# EAGLE library part 74C04 (library ryans-common-components)
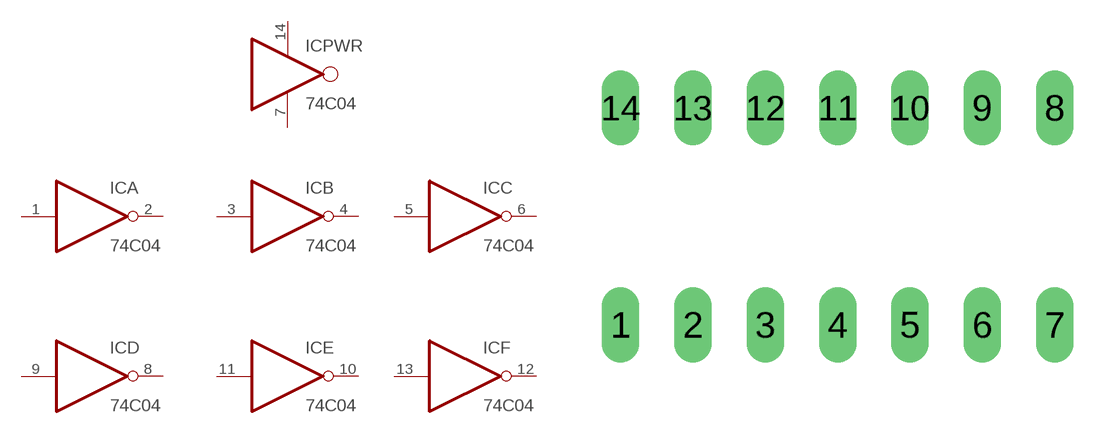
[diagram p20: symbol with the pads of DIL14-SOCKET; footprint DIL14-SOCKET]

Designator prefix IC; gates PWR=7404-INVERTER-PWR A=7404-INVERTER B=7404-INVERTER C=7404-INVERTER D=7404-INVERTER E=7404-INVERTER F=7404-INVERTER

## 74C04-DIP14  [DIL14-SOCKET]
1  A:I  in
2  A:O  out
3  B:I  in
4  B:O  out
5  C:I  in
6  C:O  out
7  PWR:GND  pwr
8  D:O  out
9  D:I  in
10  E:O  out
11  E:I  in
12  F:O  out
13  F:I  in
14  PWR:VCC  pwr

## Footprint DIL14-SOCKET (pad centres in mm)
drill 0.813 long: 1 -7.62,-3.81; 2 -5.08,-3.81; 3 -2.54,-3.81; 4 0,-3.81; 5 2.54,-3.81; 6 5.08,-3.81; 7 7.62,-3.81; 8 7.62,3.81; 9 5.08,3.81; 10 2.54,3.81; 11 0,3.81; 12 -2.54,3.81; 13 -5.08,3.81; 14 -7.62,3.81